# Altium schematic symbol library PowerBoard.SCHLIB: 17 symbols
Pins are listed as number, name and electrical type; pins without a type are passive.

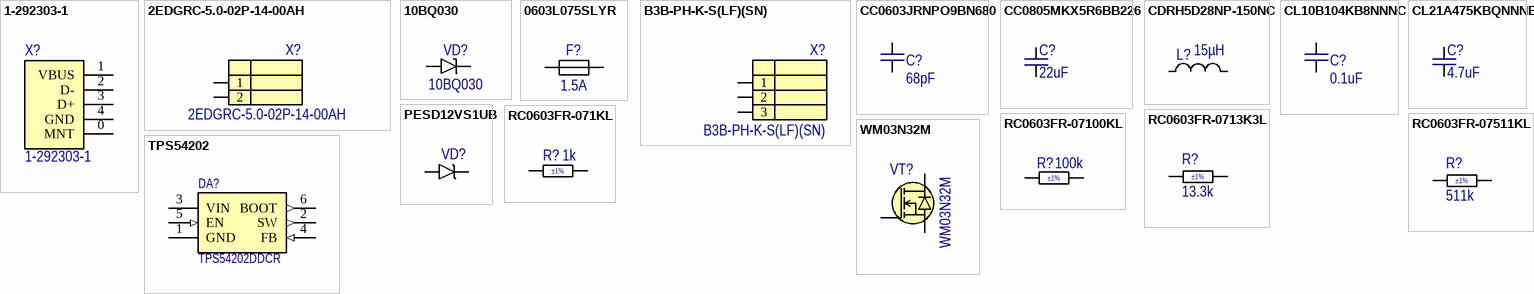
[diagram p0: symbols 1-292303-1 to WM03N32M]

## 1-292303-1
designator X?
USB A R/A RCPT ASSY SMT; Manufacturer: TE Connectivity AMP Connectors; Unit Price (USD): 2.23000; Connector Type: USB - A; Number of Contacts: 4; Gender: Receptacle; Specifications: USB 2.0; Number of Ports: 1; Current Rating: 1A per Contact; Voltage - Rated: 30VAC; Mating Cycles: 1500; Shielding: Shielded; Part Number: 1-292303-1; ComponentLink1URL: http://www.te.com/commerce/DocumentDelivery/DDEController?Action=srchrtrv&DocNm=292303&DocType=Customer+Drawing&DocLang=English; ComponentLink1Description: Datasheet; Supplier 1: Digikey; Supplier Part Number 1: A127890-ND; Image: -; Series: -; Part Status: Active; Mounting Type: Surface Mount, Right Angle; Through Hole; Mounting Feature: Horizontal; Termination: Solder; Features: Board Lock; Ingress Protection: -; Operating Temperature: -55°C ~ 85°C
footprint TE_1-292303-1
pins: 0 MNT, 1 VBUS, 2 D-, 3 D+, 4 GND

## 2EDGRC-5.0-02P-14-00AH
designator X?
TERM BLOCK HDR 2POS 90DEG 5MM; Manufacturer: Degson; Number of Positions: 2; Number of Levels: 1; Pitch: 0.197" (5.00mm); Header Orientation: 90°, Right Angle90°, Right Angle; Current - IEC: 15A; Voltage - IEC: 300V; Current - UL: 10A; Part Number: 2EDGRC-5.0-02P-14-00AH; ComponentLink1URL: https://ru.degson.com/content/details_552_1153432.html?lang=ru; ComponentLink1Description: Product Page; Series: 2EDGRC; Part Status: Active; Positions Per Level: 2; Termination Style: Solder; Mounting Type: Through Hole; Voltage - UL: 300V; Color: Green; Operating Temperature: -40°C ~ 105°C
footprint 2EDGRC-5.0-02P-14
pins: 1, 2

## 10BQ030
designator VD?
DIODE SCHOTTKY 30V 1A SMB; Manufacturer: Vishay Semiconductor Diodes Division; Unit Price (USD): Obsolete; Voltage - Forward (Vf) (Max) @ If: 420mV @ 1A; Speed: Fast Recovery =< 500ns, > 200mA (Io); Current - Reverse Leakage @ Vr: 500µA @ 30V; Part Number: 10BQ030; ComponentLink1URL: //media.digikey.com/pdf/Data%20Sheets/Vishay%20Semiconductors/VS-10BQ030PbF.pdf; ComponentLink1Description: Datasheet; Supplier 1: Digikey; Supplier Part Number 1: 10BQ030-ND; Series: -; Diode Type: Schottky; Voltage - DC Reverse (Vr) (Max): 30V; Current - Average Rectified (Io): 1A; Reverse Recovery Time (trr): -; Capacitance @ Vr, F: -; Mounting Type: Surface Mount; Package / Case: DO-214AA, SMB; Supplier Device Package: SMB; Operating Temperature - Junction: -55°C ~ 150°C
footprint DO-214AA ( SMB )
pins: A "Anod", C "Catod"

## 0603L075SLYR
designator F?, comment 1.5A
PTC RESET FUSE 6V 750MA 0603; Part Number: 0603L075SLYR; Manufacturer: Littelfuse Inc.; Factory Stock: 0; Unit Price (USD): 1.91000; Minimum Quantity: 1; Type: Polymeric; Current - Max: 50A; Time to Trip: 200ms; Resistance - Initial (Ri) (Min): 20 mOhms; Resistance - Post Trip (R1) (Max): 165 mOhms; ComponentLink1URL: http://www.littelfuse.com/~/media/electronics/datasheets/resettable_ptcs/littelfuse_ptc_lorho_datasheet.pdf.pdf; ComponentLink1Description: Datasheet; Supplier 1: Digikey; Supplier Part Number 1: F5777CT-ND; Image: //media.digikey.com/Renders/Littelfuse%20Renders/Poly-Fuse%200603%20(1608%20Metric)%20Concave.jpg; Quantity Available: 15808; @ qty: 0; Packaging: Cut Tape (CT); Series: POLY-FUSE®, LoRho; Part Status: Active; Voltage - Max: 6V; Current - Hold (Ih) (Max): 750mA; Current - Trip (It): 1.5A; Resistance - 25°C (Typ): -; Operating Temperature: -40°C ~ 85°C; Ratings: -; Mounting Type: Surface Mount; Package / Case: 0603 (1608 Metric), Concave; Size / Dimension: 0.063" L x 0.032" W (1.60mm x 0.80mm); Height - Seated (Max): -; Thickness (Max): 0.030" (0.75mm); Lead Spacing: -
footprint RSTA (Micro fuse)
footprint F0603 (1608 Metric) N
pins: 1 "Out-", 2 "Out-"

## B3B-PH-K-S(LF)(SN)
designator X?
CONN HEADER SMD R/A 3POS 2MM; Manufacturer: JST Sales America Inc.; Number of Positions: 3; Pitch: 0.079" (2.00mm); Part Number: B3B-PH-K-S(LF)(SN); ComponentLink1URL: http://www.jst-mfg.com/product/pdf/eng/ePH.pdf; ComponentLink1Description: Datasheet; Supplier 1: digikey; Series: PH; Part Status: Active; Connector Type: Header; Number of Rows: 1; Height Above Board: 6mm
footprint B3B-PH-K-S(LF)(SN)
pins: 1, 2, 3

## CC0603JRNPO9BN680
designator C?, comment 68pF
CAP CER 68PF 50V C0G/NPO 0603; Part Number: CC0603JRNPO9BN680; Manufacturer: Yageo; Points: 2; Factory Stock: 0; Unit Price (USD): 0.01379; Minimum Quantity: 4000; Tolerance: ±5%; Temperature Coefficient: C0G, NP0; ComponentLink1URL: http://www.yageo.com/documents/recent/UPY-GP_NP0_16V-to-50V_16.pdf; ComponentLink1Description: Datasheet; Supplier 1: Digikey; Supplier Part Number 1: 311-1067-1-ND; Image: //media.digikey.com/Renders/Yageo%20Renders/0603%289mmthickness%29.jpg; Quantity Available: 40000; @ qty: 0; Packaging: Tape & Reel (TR); Series: CC; Part Status: Active; Value: 68pF; Voltage - Rated: 50V; Operating Temperature: -55°C ~ 125°C; Features: -; Ratings: -; Applications: General Purpose; Failure Rate: -; Mounting Type: Surface Mount, MLCC; Package / Case: 0603 (1608 Metric); Size / Dimension: 0.063" L x 0.032" W (1.60mm x 0.80mm); Height - Seated (Max): -; Thickness (Max): 0.035" (0.90mm); Lead Spacing: -; Lead Style: -; Part Type: Capacitor
simulation model Model Name (Model Description)
footprint C0603 (1608 Metric) N
pins: 1, 2

## CC0805MKX5R6BB226
designator C?, comment 22uF
CAP CER 22UF 10V X5R 0805; Part Number: CC0805MKX5R6BB226; Manufacturer: Yageo; Points: 2; Factory Stock: 0; Unit Price (USD): Active; Tolerance: ±20%; ComponentLink1URL: http://www.yageo.com/documents/recent/UPY-GPHC_X5R_4V-to-50V_25.pdf; ComponentLink1Description: Datasheet; Supplier 1: Digikey; Supplier Part Number 1: 311-1900-1-ND; Image: //media.digikey.com/Renders/Yageo%20Renders/0805%288%5E5mm%20thickness%29.jpg; Quantity Available: 0; @ qty: 0; Minimum Quantity: 0; Packaging: Tape & Reel (TR); Series: CC; Part Status: Active; Value: 22uF; Voltage - Rated: 10V; Temperature Coefficient: X5R; Operating Temperature: -55°C ~ 85°C; Features: -; Ratings: -; Applications: General Purpose; Failure Rate: -; Mounting Type: Surface Mount, MLCC; Package / Case: 0805 (2012 Metric); Size / Dimension: 0.079" L x 0.049" W (2.00mm x 1.25mm); Height - Seated (Max): -; Thickness (Max): 0.057" (1.45mm); Lead Spacing: -; Lead Style: -; Part Type: Capacitor
simulation model Model Name (Model Description)
footprint C0805 (2012 Metric) N
pins: 1, 2

## CDRH5D28NP-150NC
designator L?, comment 15µH
FIXED IND 15UH 1.1A 103 MOHM SMD; Part Number: CDRH5D28NP-150NC; Manufacturer: Sumida America Components Inc.; Points: 2; Unit Price (USD): 0.28900; Material - Core: Ferrite; Tolerance: ±30%; Shielding: Shielded; DC Resistance (DCR): 103 mOhm Max; Frequency - Test: 100kHz; Value: 15µH; ComponentLink1URL: http://products.sumida.com/products/pdf/CDRH5D28.pdf; ComponentLink1Description: Datasheet; Supplier Part Number 1: 308-2195-2-ND; Part Status: Active; Type: -; Current Rating: 1.1A; Current - Saturation: -; Q @ Freq: -; Frequency - Self Resonant: -; Ratings: -; Operating Temperature: -40°C ~ 100°C; Mounting Type: Surface Mount; Package / Case: Nonstandard; Supplier Device Package: -; Size / Dimension: 0.224" L x 0.224" W (5.70mm x 5.70mm); Height - Seated (Max): 0.118" (3.00mm); Image: //media.digikey.com/photos/Sumida%20Photos/CDRH5D%20SERIES.jpg
footprint CDRH5D28
pins: 1, 2

## CL10B104KB8NNNC
designator C?, comment 0.1uF
CAP CER 0.1UF 50V X7R 0603; Part Number: CL10B104KB8NNNC; Manufacturer: Samsung Electro-Mechanics; Points: 2; Factory Stock: 0; Unit Price (USD): 0.00627; Minimum Quantity: 4000; Tolerance: ±10%; ComponentLink1URL: http://www.samsungsem.com/kr/support/product-search/mlcc/CL10B104KB8NNNC.jsp; ComponentLink1Description: Datasheet; Supplier 1: Digikey; Supplier Part Number 1: 1276-1000-1-ND; Image: //media.digikey.com/Renders/Samsung%20Electro-Mechanics%20America/CL%20Series%200603(1608%20Metric)%2010.jpg; Quantity Available: 0; @ qty: 0; Packaging: Tape & Reel (TR); Series: CL; Part Status: Active; Value: 0.1uF; Voltage - Rated: 50V; Temperature Coefficient: X7R; Operating Temperature: -55°C ~ 125°C; Features: -; Ratings: -; Applications: General Purpose; Failure Rate: -; Mounting Type: Surface Mount, MLCC; Package / Case: 0603 (1608 Metric); Size / Dimension: 0.063" L x 0.032" W (1.60mm x 0.80mm); Height - Seated (Max): -; Thickness (Max): 0.035" (0.90mm); Lead Spacing: -; Lead Style: -; Part Type: Capacitor
simulation model Model Name (Model Description)
footprint C0603 (1608 Metric) N
pins: 1, 2

## CL21A475KBQNNNE
designator C?, comment 4.7uF
CAP CER 4.7UF 50V X5R 0805; Part Number: CL21A475KBQNNNE; Manufacturer: Samsung Electro-Mechanics; Points: 2; Factory Stock: 0; Unit Price (USD): 0.12360; Minimum Quantity: 2000; Tolerance: ±10%; ComponentLink1URL: http://www.samsungsem.com/kr/support/product-search/mlcc/CL21A475KBQNNNE.jsp; ComponentLink1Description: Datasheet; Supplier 1: Digikey; Supplier Part Number 1: 1276-1248-1-ND; Image: //media.digikey.com/Renders/Samsung%20Electro-Mechanics%20America/0805-(1.40)-CL-Series.jpg; Quantity Available: 20000; @ qty: 0; Packaging: Tape & Reel (TR); Series: CL; Part Status: Active; Value: 4.7uF; Voltage - Rated: 50V; Temperature Coefficient: X5R; Operating Temperature: -55°C ~ 85°C; Features: -; Ratings: -; Applications: General Purpose; Failure Rate: -; Mounting Type: Surface Mount, MLCC; Package / Case: 0805 (2012 Metric); Size / Dimension: 0.079" L x 0.049" W (2.00mm x 1.25mm); Height - Seated (Max): -; Thickness (Max): 0.055" (1.40mm); Lead Spacing: -; Lead Style: -; Part Type: Capacitor
simulation model Model Name (Model Description)
footprint C0805 (2012 Metric) N
pins: 1, 2

## PESD12VS1UB
designator VD?  (value not drawn)
ESD protection diodes; Manufacturer: Nexperia; Points: 0; Unidirectional Channels: 1; Voltage - Reverse Standoff (Typ): 3.3; Voltage - Breakdown (Min): 5.2; Voltage - Clamping (Max) @ Ipp: 6.0; Current - Peak Pulse (10/1000µs): 18A; Power - Peak Pulse: 330; Power Line Protection: Yes; Part Number: PESD12VS1UB; ComponentLink1URL: https://static.chipdip.ru/lib/010/DOC013010914.pdf; ComponentLink1Description: Datasheet; Supplier 1: ChipDip; Supplier Part Number 1: PESD12VS1UB; Series: PESDxS1UB; Part Status: Active; Bidirectional Channels: 0; Applications: General Purpose; ComponentLink10Description: Local Supplier
footprint SOD-523
pins: A, C

## RC0603FR-071KL
designator R?, comment 1k  Tolerance: ±1%
RES SMD 1K OHM 1% 1/10W 0603; Part Number: RC0603FR-071KL; Manufacturer: Yageo; Points: 2; ValueGOST: 1кОм; Unit Price (USD): 0.10000; Power (Watts): 0.1W, 1/10W; Temperature Coefficient: ±100ppm/°C; ComponentLink1URL: http://www.yageo.com/documents/recent/PYu-RC_Grou; ComponentLink1Description: Datasheet; Supplier 1: Digikey; Supplier Part Number 1: 311-1.00KHRCT-ND; Value: 1k; Package / Case: 0603 (1608 Metric); Series: RC; Part Status: Active; Composition: Thick Film; Features: Moisture Resistant; Operating Temperature: -55°C ~ 155°C; Supplier Device Package: 0603; Size / Dimension: 0.063" L x 0.031" W (1.60mm x 0.80mm); Height - Seated (Max): 0.022" (0.55mm); Image: //media.digikey.com/Renders/Yageo%20Renders/0603-(1608-Metric).jpg; Part Type: Resistor
footprint R0603 (1608 Metric) N
pins: 1, 2

## RC0603FR-0713K3L
designator R?, comment 13.3k  Tolerance: ±1%
RES SMD 13.3K OHM 1% 1/10W 0603; Part Number: RC0603FR-0713K3L; Manufacturer: Yageo; Points: 2; ValueGOST: 13.3кОм; Unit Price (USD): 0.10000; Power (Watts): 0.1W, 1/10W; Temperature Coefficient: ±100ppm/°C; ComponentLink1URL: http://www.yageo.com/documents/recent/PYu-RC_Grou; ComponentLink1Description: Datasheet; Supplier 1: Digikey; Supplier Part Number 1: 311-13.3KHRCT-ND; Value: 13.3k; Package / Case: 0603 (1608 Metric); Series: RC; Part Status: Active; Composition: Thick Film; Features: Moisture Resistant; Operating Temperature: -55°C ~ 155°C; Supplier Device Package: 0603; Size / Dimension: 0.063" L x 0.031" W (1.60mm x 0.80mm); Height - Seated (Max): 0.022" (0.55mm); Image: //media.digikey.com/Renders/Yageo%20Renders/0603-(1608-Metric).jpg; Part Type: Resistor
footprint R0603 (1608 Metric) N
pins: 1, 2

## RC0603FR-07100KL
designator R?, comment 100k  Tolerance: ±1%
RES SMD 100K OHM 1% 1/10W 0603; Part Number: RC0603FR-07100KL; Manufacturer: Yageo; Points: 2; ValueGOST: 100кОм; Unit Price (USD): 0.10000; Power (Watts): 0.1W, 1/10W; Temperature Coefficient: ±100ppm/°C; ComponentLink1URL: http://www.yageo.com/documents/recent/PYu-RC_Grou; ComponentLink1Description: Datasheet; Supplier 1: Digikey; Supplier Part Number 1: 311-100KHRCT-ND; Value: 100k; Package / Case: 0603 (1608 Metric); Series: RC; Part Status: Active; Composition: Thick Film; Features: Moisture Resistant; Operating Temperature: -55°C ~ 155°C; Supplier Device Package: 0603; Size / Dimension: 0.063" L x 0.031" W (1.60mm x 0.80mm); Height - Seated (Max): 0.022" (0.55mm); Image: //media.digikey.com/Renders/Yageo%20Renders/0603-(1608-Metric).jpg; Part Type: Resistor
footprint R0603 (1608 Metric) N
pins: 1, 2

## RC0603FR-07511KL
designator R?, comment 511k  Tolerance: ±1%
RES SMD 511K OHM 1% 1/10W 0603; Part Number: RC0603FR-07511KL; Manufacturer: Yageo; Points: 2; ValueGOST: 511кОм; Unit Price (USD): 0.10000; Power (Watts): 0.1W, 1/10W; Temperature Coefficient: ±100ppm/°C; ComponentLink1URL: http://www.yageo.com/documents/recent/PYu-RC_Grou; ComponentLink1Description: Datasheet; Supplier 1: Digikey; Supplier Part Number 1: 311-511KHRCT-ND; Value: 511k; Package / Case: 0603 (1608 Metric); Series: RC; Part Status: Active; Composition: Thick Film; Features: Moisture Resistant; Operating Temperature: -55°C ~ 155°C; Supplier Device Package: 0603; Size / Dimension: 0.063" L x 0.031" W (1.60mm x 0.80mm); Height - Seated (Max): 0.022" (0.55mm); Image: //media.digikey.com/Renders/Yageo%20Renders/0603-(1608-Metric).jpg; Part Type: Resistor
footprint R0603 (1608 Metric) N
pins: 1, 2

## TPS54202
designator DA?, comment TPS54202DDCR
Power Supply; Manufacturer_Name: Texas Instruments; Datasheet Link: http://www.ti.com/lit/gpn/tps54202; Height: 1.1mm; Part Number: TPS54202DDCR; Mouser Part Number: 595-TPS54202DDCR; Mouser Price/Stock: https://www.mouser.co.uk/ProductDetail/Texas-Instruments/TPS54202DDCR?qs=uP22XH7NdCsJtN%2Fq54jCtQ%3D%3D; Arrow Part Number: TPS54202DDCR; Arrow Price/Stock: https://www.arrow.com/en/products/tps54202ddcr/texas-instruments?region=nac; ComponentLink1Description: Datasheet; ComponentLink1URL: https://static.chipdip.ru/lib/513/DOC010513657.pdf
footprint SOT95P280X110-6N
pins: 1 GND (power), 2 SW (out), 3 VIN (power), 4 FB (in), 5 EN (in), 6 BOOT (out)

## WM03N32M
designator VT?
N-Channel MOSFET; Manufacturer: way-on; Drain to Source Voltage (Vdss): 30V; Current - Continuous Drain (Id) @ 25°C: 3.2A; Drive Voltage (Max Rds On,  Min Rds On): 4.5V; Vgs(th) (Max) @ Id: 1.5; Part Number: WM03N32M; ComponentLink1URL: https://datasheet.lcsc.com/lcsc/2206101730_Wayon-WM03N32M_C3030969.pdf; ComponentLink1Description: Datasheet; ComponentLink2URL: https://www.electronshik.ru/item/WAYON/WM03N32M; ComponentLink2Description: Local Supplier; Supplier 1: electronshik.ru; FET Type: N-Channel
footprint SOT23_3_mosfet_1
pins: D, G, S